# EAGLE library part M05X2 (library X893)
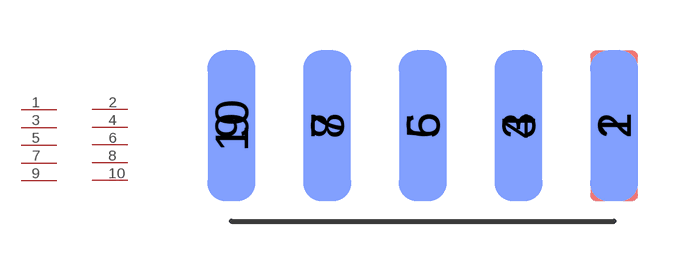
[diagram p213: symbol with the pads of PLANAR-5X2; footprint PLANAR-5X2]

Designator prefix CN

## M05X2  [PLANAR-5X2]
1  1
2  2
3  3
4  4
5  5
6  6
7  7
8  8
9  9
10  10

## Footprint PLANAR-5X2 (pad centres in mm)
smd 1.27 x 4: 1 5.08,2.54; 3 2.54,2.54; 5 0,2.54; 7 -2.54,2.54; 9 -5.08,2.54
smd 1.27 x 4 bottom: 2 5.08,2.54; 4 2.54,2.54; 6 0,2.54; 8 -2.54,2.54; 10 -5.08,2.54